# EAGLE library part MULTICOMP-DPDT (library tinyPFC)
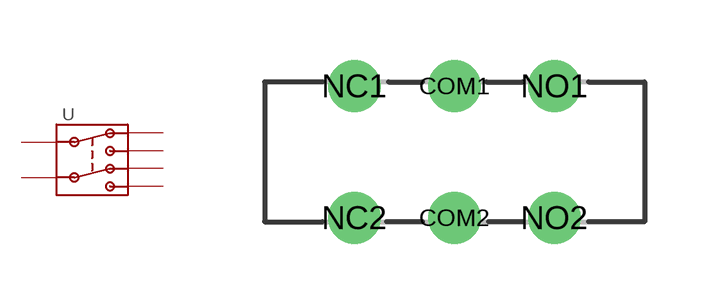
[diagram p0: symbol with the pads of MULTICOMP-DPDT; footprint MULTICOMP-DPDT]

Designator prefix -

## MULTICOMP-DPDT  [MULTICOMP-DPDT]
COM1  COM1
COM2  COM2
NC1  NC1
NC2  NC2
NO1  NO1
NO2  NO2

## Footprint MULTICOMP-DPDT (pad centres in mm)
drill 0.8: COM1 0,1.65; COM2 0,-1.65; NC1 -2.5,1.65; NC2 -2.5,-1.65; NO1 2.5,1.65; NO2 2.5,-1.65